# EAGLE library part AD8130 (library balmer)
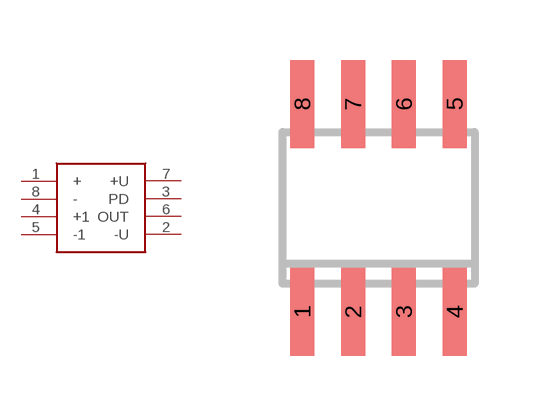
[diagram p2: symbol with the pads of SO8; footprint SO8]

Designator prefix IC

## AD8130  [SO8]
1  +
2  -U
3  PD
4  +1
5  -1
6  OUT
7  +U
8  -

## Footprint SO8 (pad centres in mm)
8-Lead Small Outline IC (SO-8) Source: http://www.analog.com/UploadedFiles/Data_Sheets/703465986AD8611_2_0.pdf
smd 0.6 x 2.2: 1 -1.905,-2.6; 2 -0.635,-2.6; 3 0.635,-2.6; 4 1.905,-2.6; 5 1.905,2.6; 6 0.635,2.6; 7 -0.635,2.6; 8 -1.905,2.6